# EAGLE library part NRF52832 (library NRF52832)
Bluetooth 4.0 Low Energy/2.4Ghz NORDIC SEMICONDUCTOR
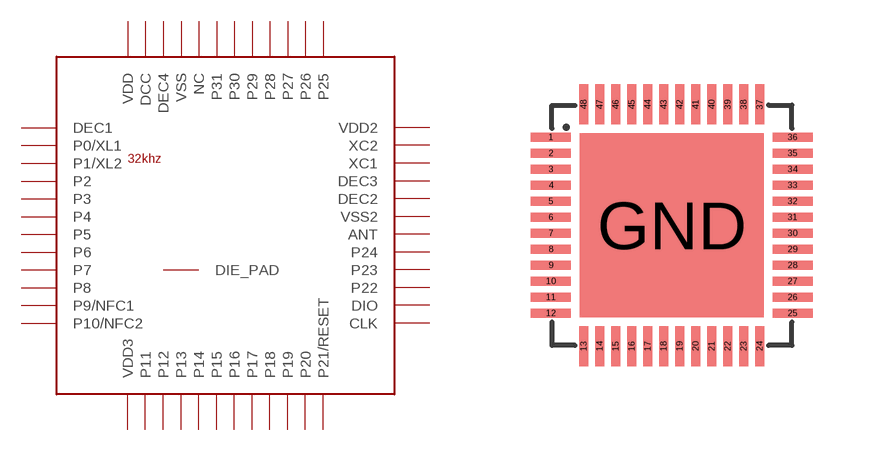
[diagram p0: symbol with the pads of QFN48; footprint QFN48]

Designator prefix -

## NRF52832NRF52832-QFAA  [QFN48]
1  DEC1
2  P0/XL1
3  P1/XL2
4  P2
5  P3
6  P4
7  P5
8  P6
9  P7
10  P8
11  P9/NFC1
12  P10/NFC2
13  VDD3
14  P11
15  P12
16  P13
17  P14
18  P15
19  P16
20  P17
21  P18
22  P19
23  P20
24  P21/RESET
25  CLK
26  DIO
27  P22
28  P23
29  P24
30  ANT
31  VSS2
32  DEC2
33  DEC3
34  XC1
35  XC2
36  VDD2
37  P25
38  P26
39  P27
40  P28
41  P29
42  P30
43  P31
44  NC
45  VSS
46  DEC4
47  DCC
48  VDD
GND  DIE_PAD

## Footprint QFN48 (pad centres in mm)
smd 1 x 0.226: 1 -3.02,2.2; 2 -3.02,1.8; 3 -3.02,1.4; 4 -3.02,1; 5 -3.02,0.6; 6 -3.02,0.2; 7 -3.02,-0.2; 8 -3.02,-0.6; 9 -3.02,-1; 10 -3.02,-1.4; 11 -3.02,-1.8; 12 -3.02,-2.2; 25 3.02,-2.2; 26 3.02,-1.8; 27 3.02,-1.4; 28 3.02,-1; 29 3.02,-0.6; 30 3.02,-0.2; 31 3.02,0.2; 32 3.02,0.6; 33 3.02,1; 34 3.02,1.4; 35 3.02,1.8; 36 3.02,2.2
smd 0.226 x 1: 13 -2.2,-3.02; 14 -1.8,-3.02; 15 -1.4,-3.02; 16 -1,-3.02; 17 -0.6,-3.02; 18 -0.2,-3.02; 19 0.2,-3.02; 20 0.6,-3.02; 21 1,-3.02; 22 1.4,-3.02; 23 1.8,-3.02; 24 2.2,-3.02; 37 2.2,3.02; 38 1.8,3.02; 39 1.4,3.02; 40 1,3.02; 41 0.6,3.02; 42 0.2,3.02; 43 -0.2,3.02; 44 -0.6,3.02; 45 -1,3.02; 46 -1.4,3.02; 47 -1.8,3.02; 48 -2.2,3.02
smd 4.6 x 4.6: GND 0,0